# Altium footprint library uBlox_GPS.PcbLib: 2 footprints
Each footprint in its own frame and in the unit in brackets; x right, y up, seen from the top. Pads: shape width x height; smd on the part's side, far side on the other; paste and mask are expansions set on the pad; w line width, h text height; cw(c..) or ccw(c..) is an arc to the next point about the centre after c.
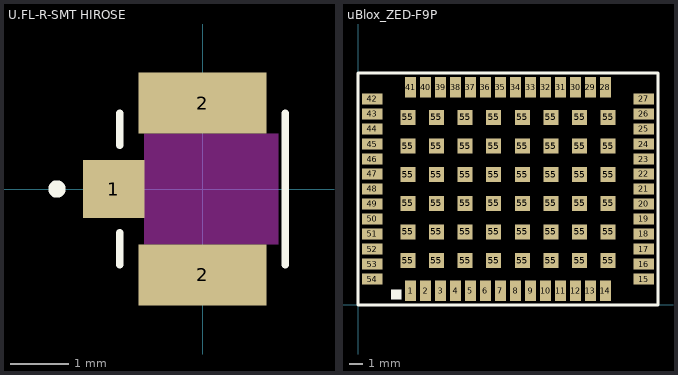
[diagram p0: the footprints below, top view; thin cyan lines are the x and y axes]

## U.FL-R-SMT HIROSE [mm]
pads (3):
  rect 1.05x1 smd: 1(-1.525,0)
  rect 2.2x1.05 smd: 2(0,-1.475) 2(0,1.475)
Top Overlay:
  circle w0.15: c-2.5,0 r0.075
  lines w0.127: -1.42,-1.3 -1.42,-0.75 ; -1.42,0.75 -1.42,1.3 ; 1.42,-1.3 1.42,1.3
Keep-Out Layer:
  region: 1.3,-0.95 -1,-0.95 -1,0.95 1.3,0.95
3D body "U.FL-R-SMT(10)--3DModel-STEP-56544.STEP": height 1.25, standoff 0, extent -1.55,-1.5 1.55,1.5

## uBlox_ZED-F9P [mm]
pads (102):
  rect 0.8x1.5 smd: 1(3.85,1.05) 2(4.95,1.05) 3(6.05,1.05) 4(7.15,1.05) 5(8.25,1.05) 6(9.35,1.05) 7(10.45,1.05) 8(11.55,1.05) 9(12.65,1.05) 10(13.75,1.05) 11(14.85,1.05) 12(15.95,1.05) 13(17.05,1.05) 14(18.15,1.05) 28(18.15,15.95) 29(17.05,15.95) 30(15.95,15.95) 31(14.85,15.95) 32(13.75,15.95) 33(12.65,15.95) 34(11.55,15.95) 35(10.45,15.95) 36(9.35,15.95) 37(8.25,15.95) 38(7.15,15.95) 39(6.05,15.95) 40(4.95,15.95) 41(3.85,15.95)
  rect 1.5x0.8 smd: 15(20.95,1.9) 16(20.95,3) 17(20.95,4.1) 18(20.95,5.2) 19(20.95,6.3) 20(20.95,7.4) 21(20.95,8.5) 22(20.95,9.6) 23(20.95,10.7) 24(20.95,11.8) 25(20.95,12.9) 26(20.95,14) 27(20.95,15.1) 42(1.05,15.1) 43(1.05,14) 44(1.05,12.9) 45(1.05,11.8) 46(1.05,10.7) 47(1.05,9.6) 48(1.05,8.5) 49(1.05,7.4) 50(1.05,6.3) 51(1.05,5.2) 52(1.05,4.1) 53(1.05,3) 54(1.05,1.9)
  rect 1.1x1.1 smd: 55(3.65,3.25) 55(3.65,5.35) 55(3.65,7.45) 55(3.65,9.55) 55(3.65,11.65) 55(3.65,13.75) 55(5.75,3.25) 55(5.75,5.35) 55(5.75,7.45) 55(5.75,9.55) 55(5.75,11.65) 55(5.75,13.75) 55(7.85,3.25) 55(7.85,5.35) 55(7.85,7.45) 55(7.85,9.55) 55(7.85,11.65) 55(7.85,13.75) 55(9.95,3.25) 55(9.95,5.35) 55(9.95,7.45) 55(9.95,9.55) 55(9.95,11.65) 55(9.95,13.75) 55(12.05,3.25) 55(12.05,5.35) 55(12.05,7.45) 55(12.05,9.55) 55(12.05,11.65) 55(12.05,13.75) 55(14.15,3.25) 55(14.15,5.35) 55(14.15,7.45) 55(14.15,9.55) 55(14.15,11.65) 55(14.15,13.75) 55(16.25,3.25) 55(16.25,5.35) 55(16.25,7.45) 55(16.25,9.55) 55(16.25,11.65) 55(16.25,13.75) 55(18.35,3.25) 55(18.35,5.35) 55(18.35,7.45) 55(18.35,9.55) 55(18.35,11.65) 55(18.35,13.75)
Top Overlay:
  rectangle: 2.413,0.381 3.175,1.143
  lines w0.2: 0,0 22,0 22,17 0,17 0,0
3D body "u-blox ZED-F9P.stp": height 2.2, standoff -0.04, extent 0,0 22,17
3D body: height 2.3, standoff 0.08, extent 1.397,1.461 20.447,15.494